# Altium schematic symbol library B3B-XH-A.SchLib: 1 symbol
Pins are listed as number, name and electrical type; pins without a type are passive.

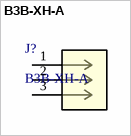
[diagram p0: symbol B3B-XH-A]

## B3B-XH-A
designator J?
Description; Manufacturer_Name: JST; Copyright: Copyright (C) 2026 Ultra Librarian. All rights reserved.; Manufacturer_Part_Number: B3B-XH-A; RefDes: RefDes; Type: Type
footprint CONN_B3B-XH-A_JST
pins: 1, 2, 3